# EAGLE library part ADXL320 (library prueba)
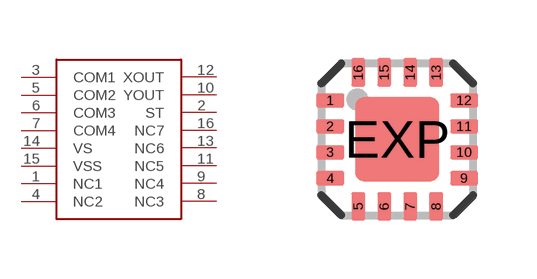
[diagram p0: symbol with the pads of LFCSP16; footprint LFCSP16]

Designator prefix LFSCP16

## ADXL320  [LFCSP16]
1  NC1  nc
2  ST  in
3  COM1  pwr
4  NC2  nc
5  COM2  pwr
6  COM3  pwr
7  COM4  pwr
8  NC3  nc
9  NC4  nc
10  YOUT  out
11  NC5  nc
12  XOUT  out
13  NC6  nc
14  VS  pwr
15  VSS  pwr
16  NC7  nc

## Footprint LFCSP16 (pad centres in mm)
16-Terminal Leadless Frame Chip Scale Package [LFCSP] (CP) Source: Analog Devices .. 780914713ADD8704_0.pdf
smd 0.7 x 0.35: 1 -1.675,0.975; 2 -1.675,0.325; 3 -1.675,-0.325; 4 -1.675,-0.975; 9 1.675,-0.975; 10 1.675,-0.325; 11 1.675,0.325; 12 1.675,0.975
smd 0.35 x 0.7: 5 -0.975,-1.675; 6 -0.325,-1.675; 7 0.325,-1.675; 8 0.975,-1.675; 13 0.975,1.675; 14 0.325,1.675; 15 -0.325,1.675; 16 -0.975,1.675
smd 2.1 x 2.1: EXP 0,0